# EAGLE library part OPA541 (library wheat)
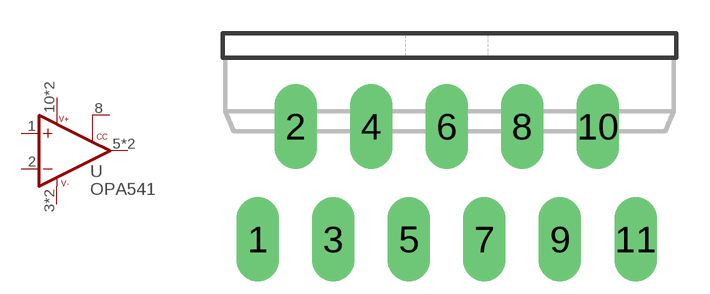
[diagram p293: symbol with the pads of TO220-11; footprint TO220-11]

Designator prefix -

## OPA541  [TO220-11]
1  +IN  in
2  -IN  in
3  V-  pwr
4  V-  pwr
5  OUT  out
7  OUT  out
8  CC2  pwr
10  V+  pwr
11  V+  pwr

## Footprint TO220-11 (pad centres in mm)
drill 1.27 long: 1 -8.505,-9.373; 2 -6.805,-4.293; 3 -5.102,-9.373; 4 -3.402,-4.293; 5 -1.698,-9.373; 6 0.002,-4.293; 7 1.702,-9.373; 8 3.402,-4.293; 9 5.102,-9.373; 10 6.805,-4.293; 11 8.505,-9.373